# Altium schematic symbol library ESP8266EX.SchLib: 1 symbol
Pins are listed as number, name and electrical type; pins without a type are passive.

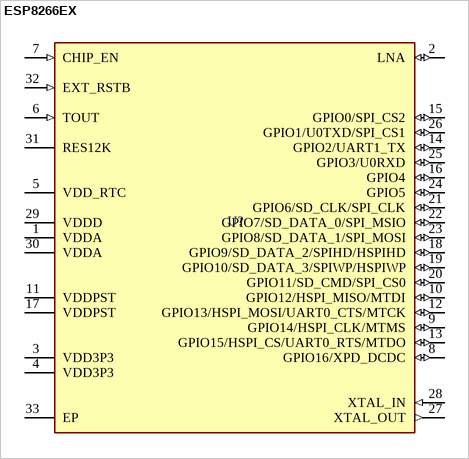
[diagram p0: symbol ESP8266EX]

## ESP8266EX
designator U?
pins: 1 VDDA (power), 2 LNA (io), 3 VDD3P3 (power), 4 VDD3P3 (power), 5 VDD_RTC, 6 TOUT (in), 7 CHIP_EN (in), 8 GPIO16/XPD_DCDC (io), 9 GPIO14/HSPI_CLK/MTMS (io), 10 GPIO12/HSPI_MISO/MTDI (io), 11 VDDPST (power), 12 GPIO13/HSPI_MOSI/UART0_CTS/MTCK (io), 13 GPIO15/HSPI_CS/UART0_RTS/MTDO (io), 14 GPIO2/UART1_TX (io), 15 GPIO0/SPI_CS2 (io), 16 GPIO4 (io), 17 VDDPST (power), 18 GPIO9/SD_DATA_2/SPIHD/HSPIHD (io), 19 GPIO10/SD_DATA_3/SPIWP/HSPIWP (io), 20 GPIO11/SD_CMD/SPI_CS0 (io), 21 GPIO6/SD_CLK/SPI_CLK (io), 22 GPIO7/SD_DATA_0/SPI_MSIO (io), 23 GPIO8/SD_DATA_1/SPI_MOSI (io), 24 GPIO5 (io), 25 GPIO3/U0RXD (io), 26 GPIO1/U0TXD/SPI_CS1 (io), 27 XTAL_OUT (out), 28 XTAL_IN (in), 29 VDDD (power), 30 VDDA (power), 31 RES12K, 32 EXT_RSTB (in), 33 EP